# Altium footprint library EE2-5NU.PcbLib: 1 footprints
Each footprint in its own frame and in the unit in brackets; x right, y up, seen from the top. Pads: shape width x height; smd on the part's side, far side on the other; paste and mask are expansions set on the pad; w line width, h text height; cw(c..) or ccw(c..) is an arc to the next point about the centre after c.
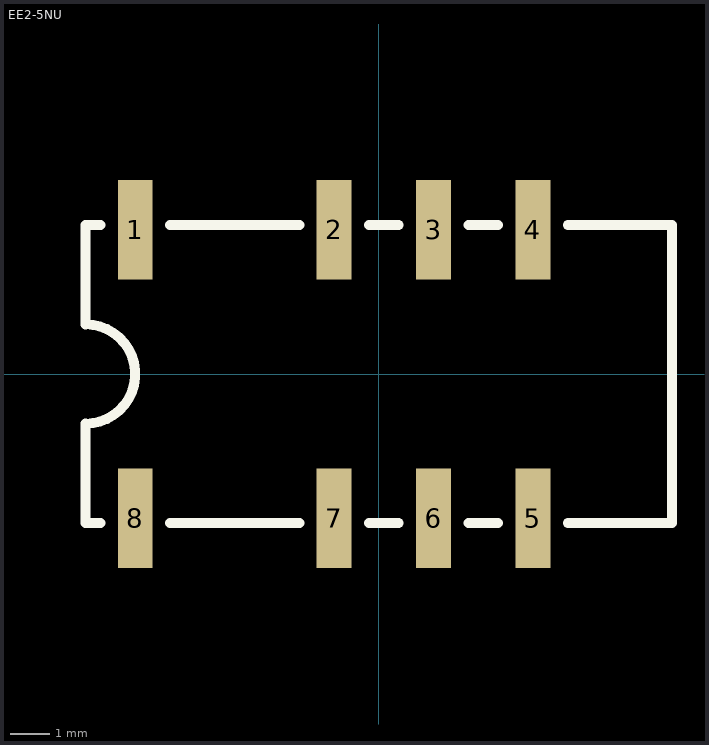
[diagram p0: the footprint, top view; thin cyan lines are the x and y axes]

## EE2-5NU [mil]
pads (8):
  rect 35x100 smd: 1(-245,145) 2(-45,145) 3(55,145) 4(155,145) 5(155,-145) 6(55,-145) 7(-45,-145) 8(-245,-145)
Top Overlay:
  lines w10: -280,-150 -295,-150 -295,-50 ccw(c-295,0) -295,50 -295,150 -280,150 ; -210,-150 -80,-150 ; -210,150 -80,150 ; -10,-150 20,-150 ; -10,150 20,150 ; 90,-150 120,-150 ; 90,150 120,150 ; 190,-150 295,-150 295,0 295,150 190,150
3D body: height 396.33, standoff 2.63, extent -295.55,-187.01 295,187.01